# Altium integrated library Molex FFC - FPC Connectors (SMT).IntLib: 638 symbols (part 5 of 20)
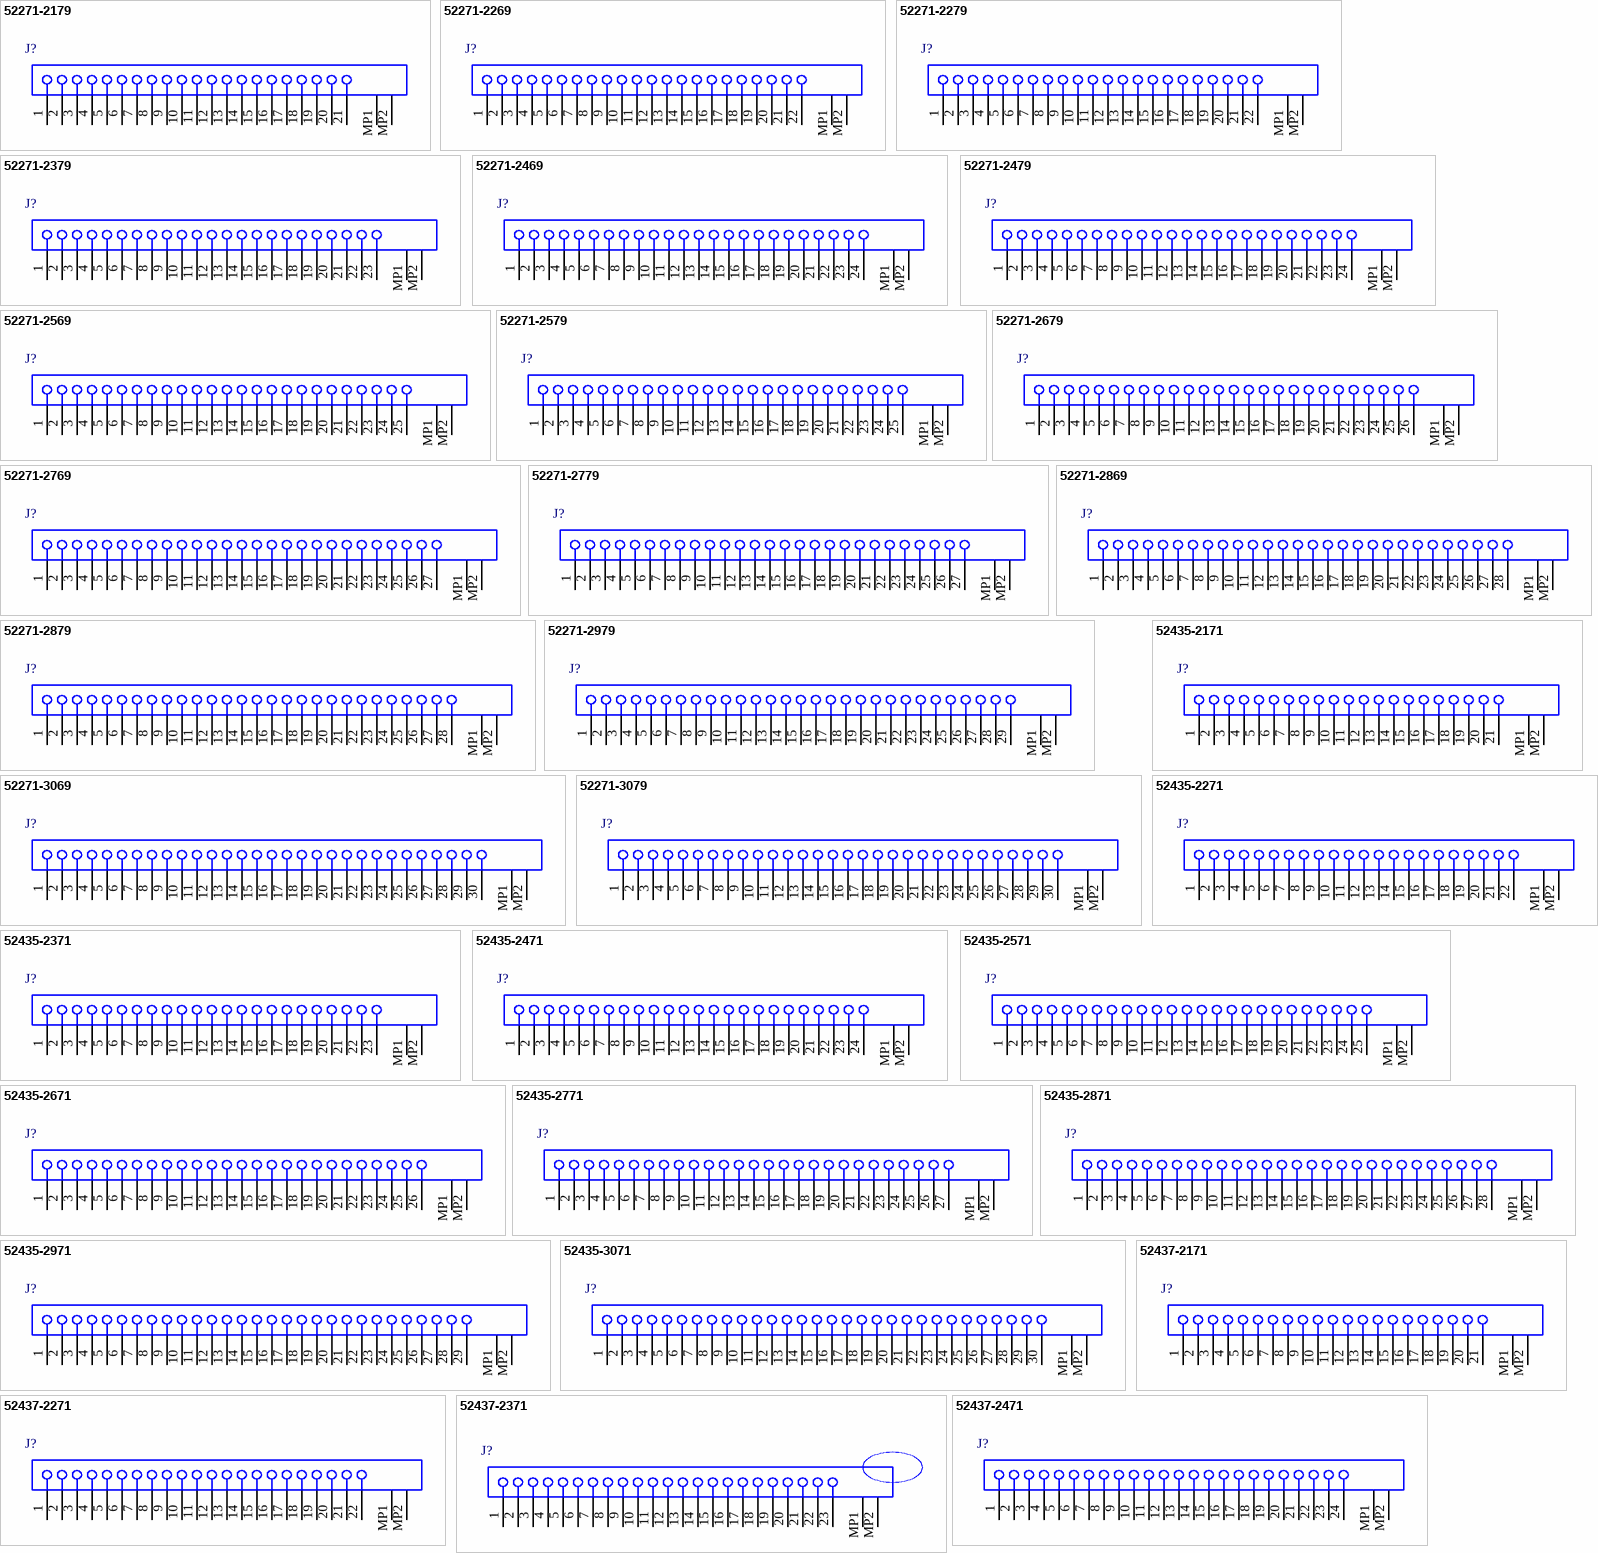
[diagram p25: symbols 52271-2179 to 52437-2471]

## 52435-2571
designator J?
0.5 mm Pitch Easy-On(TM) Type FPC Connector, 2.0 mm Mated Height, Right Angle, ZIF, SMT, Top Contact, 25 Circuits, -40 to 85 degC, ELV and RoHS Compliant, Tape and Reel; Manufacturer: Molex; PartNumber: 52435-2571; Circuits (Loaded): 25; Current (Max per Contact): 0.5A; Durability (mating cycles max): 20; Entry Angle: 90degrees Angle; Mated Height: 2.00mm; Material - Metal: Phosphor Bronze; Material - Plating Mating: Gold; PCB Locator: No; PCB Retention: Yes; Pitch - Mating Interface: 0.50mm; Voltage (Max): 50V AC (RMS)/DC; PackageVersion: Rev. D, 07/2010; PackageReference: 52435-2571; PackageDescription: 25-Lead FPC Connector, Pitch 0.5 mm; Contact Position: Top; Material - Plating Termination: Gold; Number of Rows: 1; Orientation: Right Angle; Packing: Tape and Reel; Polarized to PCB: Yes; RoHS: TRUE; Stackable: No; Mounting Technology: Surface Mount; ComponentLink1Description: Manufacturer URL; ComponentLink1URL: http://www.molex.com/molex/index.jsp; ComponentLink2Description: Datasheet; ComponentLink2URL: http://www.molex.com/webdocs/datasheets/pdf/en-us/0524352571_FFC_FPC_CONNECTORS.pdf; ComponentLink3Description: Package Specification; ComponentLink3URL: http://www.molex.com/pdm_docs/sd/524352571_sd.pdf
footprint MOLX-52435-2571 (FPC Connector, 25-Leads, Right Angle, Pitch 0.5 mm, Mated Height 2.0 mm, SMT)
pins: 1, 2, 3, 4, 5, 6, 7, 8, 9, 10, 11, 12, 13, 14, 15, 16, 17, 18, 19, 20, 21, 22, 23, 24, 25, MP1, MP2

## 52435-2671
designator J?
0.5 mm Pitch Easy-On(TM) Type FPC Connector, 2.0 mm Mated Height, Right Angle, ZIF, SMT, Top Contact, 26 Circuits, -40 to 85 degC, ELV and RoHS Compliant, Tape and Reel; Manufacturer: Molex; PartNumber: 52435-2671; Circuits (Loaded): 26; Current (Max per Contact): 0.5A; Durability (mating cycles max): 20; Entry Angle: 90degrees Angle; Mated Height: 2.00mm; Material - Metal: Phosphor Bronze; Material - Plating Mating: Gold; PCB Locator: No; PCB Retention: Yes; Pitch - Mating Interface: 0.50mm; Voltage (Max): 50V AC (RMS)/DC; PackageVersion: Rev. D, 07/2010; PackageReference: 52435-2671; PackageDescription: 26-Lead FPC Connector, Pitch 0.5 mm; Contact Position: Top; Material - Plating Termination: Gold; Number of Rows: 1; Orientation: Right Angle; Packing: Tape and Reel; Polarized to PCB: Yes; RoHS: TRUE; Stackable: No; Mounting Technology: Surface Mount; ComponentLink1Description: Manufacturer URL; ComponentLink1URL: http://www.molex.com/molex/index.jsp; ComponentLink2Description: Datasheet; ComponentLink2URL: http://www.molex.com/webdocs/datasheets/pdf/en-us/0524352671_FFC_FPC_CONNECTORS.pdf; ComponentLink3Description: Package Specification; ComponentLink3URL: http://www.molex.com/pdm_docs/sd/524352671_sd.pdf
footprint MOLX-52435-2671 (FPC Connector, 26-Leads, Right Angle, Pitch 0.5 mm, Mated Height 2.0 mm, SMT)
pins: 1, 2, 3, 4, 5, 6, 7, 8, 9, 10, 11, 12, 13, 14, 15, 16, 17, 18, 19, 20, 21, 22, 23, 24, 25, 26, MP1, MP2

## 52435-2771
designator J?
0.5 mm Pitch Easy-On(TM) Type FPC Connector, 2.0 mm Mated Height, Right Angle, ZIF, SMT, Top Contact, 27 Circuits, -40 to 85 degC, ELV and RoHS Compliant, Tape and Reel; Manufacturer: Molex; PartNumber: 52435-2771; Circuits (Loaded): 27; Current (Max per Contact): 0.5A; Durability (mating cycles max): 20; Entry Angle: 90degrees Angle; Mated Height: 2.00mm; Material - Metal: Phosphor Bronze; Material - Plating Mating: Gold; PCB Locator: No; PCB Retention: Yes; Pitch - Mating Interface: 0.50mm; Voltage (Max): 50V AC (RMS)/DC; PackageVersion: Rev. D, 07/2010; PackageReference: 52435-2771; PackageDescription: 27-Lead FPC Connector, Pitch 0.5 mm; Contact Position: Top; Material - Plating Termination: Gold; Number of Rows: 1; Orientation: Right Angle; Packing: Tape and Reel; Polarized to PCB: Yes; RoHS: TRUE; Stackable: No; Mounting Technology: Surface Mount; ComponentLink1Description: Manufacturer URL; ComponentLink1URL: http://www.molex.com/molex/index.jsp; ComponentLink2Description: Datasheet; ComponentLink2URL: http://www.molex.com/webdocs/datasheets/pdf/en-us/0524352771_FFC_FPC_CONNECTORS.pdf; ComponentLink3Description: Package Specification; ComponentLink3URL: http://www.molex.com/pdm_docs/sd/524352771_sd.pdf
footprint MOLX-52435-2771 (FPC Connector, 27-Leads, Right Angle, Pitch 0.5 mm, Mated Height 2.0 mm, SMT)
pins: 1, 2, 3, 4, 5, 6, 7, 8, 9, 10, 11, 12, 13, 14, 15, 16, 17, 18, 19, 20, 21, 22, 23, 24, 25, 26, 27, MP1, MP2

## 52435-2871
designator J?
0.5 mm Pitch Easy-On(TM) Type FPC Connector, 2.0 mm Mated Height, Right Angle, ZIF, SMT, Top Contact, 28 Circuits, -40 to 85 degC, ELV and RoHS Compliant, Tape and Reel; Manufacturer: Molex; PartNumber: 52435-2871; Circuits (Loaded): 28; Current (Max per Contact): 0.5A; Durability (mating cycles max): 20; Entry Angle: 90degrees Angle; Mated Height: 2.00mm; Material - Metal: Phosphor Bronze; Material - Plating Mating: Gold; PCB Locator: No; PCB Retention: Yes; Pitch - Mating Interface: 0.50mm; Voltage (Max): 50V AC (RMS)/DC; PackageVersion: Rev. D, 07/2010; PackageReference: 52435-2871; PackageDescription: 28-Lead FPC Connector, Pitch 0.5 mm; Contact Position: Top; Material - Plating Termination: Gold; Number of Rows: 1; Orientation: Right Angle; Packing: Tape and Reel; Polarized to PCB: Yes; RoHS: TRUE; Stackable: No; Mounting Technology: Surface Mount; ComponentLink1Description: Manufacturer URL; ComponentLink1URL: http://www.molex.com/molex/index.jsp; ComponentLink2Description: Datasheet; ComponentLink2URL: http://www.molex.com/webdocs/datasheets/pdf/en-us/0524352871_FFC_FPC_CONNECTORS.pdf; ComponentLink3Description: Package Specification; ComponentLink3URL: http://www.molex.com/pdm_docs/sd/524352871_sd.pdf
footprint MOLX-52435-2871 (FPC Connector, 28-Leads, Right Angle, Pitch 0.5 mm, Mated Height 2.0 mm, SMT)
pins: 1, 2, 3, 4, 5, 6, 7, 8, 9, 10, 11, 12, 13, 14, 15, 16, 17, 18, 19, 20, 21, 22, 23, 24, 25, 26, 27, 28, MP1, MP2

## 52435-2971
designator J?
0.5 mm Pitch Easy-On(TM) Type FPC Connector, 2.0 mm Mated Height, Right Angle, ZIF, SMT, Top Contact, 29 Circuits, -40 to 85 degC, ELV and RoHS Compliant, Tape and Reel; Manufacturer: Molex; PartNumber: 52435-2971; Circuits (Loaded): 29; Current (Max per Contact): 0.5A; Durability (mating cycles max): 20; Entry Angle: 90degrees Angle; Mated Height: 2.00mm; Material - Metal: Phosphor Bronze; Material - Plating Mating: Gold; PCB Locator: No; PCB Retention: Yes; Pitch - Mating Interface: 0.50mm; Voltage (Max): 50V AC (RMS)/DC; PackageVersion: Rev. D, 07/2010; PackageReference: 52435-2971; PackageDescription: 29-Lead FPC Connector, Pitch 0.5 mm; Contact Position: Top; Material - Plating Termination: Gold; Number of Rows: 1; Orientation: Right Angle; Packing: Tape and Reel; Polarized to PCB: Yes; RoHS: TRUE; Stackable: No; Mounting Technology: Surface Mount; ComponentLink1Description: Manufacturer URL; ComponentLink1URL: http://www.molex.com/molex/index.jsp; ComponentLink2Description: Datasheet; ComponentLink2URL: http://www.molex.com/webdocs/datasheets/pdf/en-us/0524352971_FFC_FPC_CONNECTORS.pdf; ComponentLink3Description: Package Specification; ComponentLink3URL: http://www.molex.com/pdm_docs/sd/524352971_sd.pdf
footprint MOLX-52435-2971 (FPC Connector, 29-Leads, Right Angle, Pitch 0.5 mm, Mated Height 2.0 mm, SMT)
pins: 1, 2, 3, 4, 5, 6, 7, 8, 9, 10, 11, 12, 13, 14, 15, 16, 17, 18, 19, 20, 21, 22, 23, 24, 25, 26, 27, 28, 29, MP1, MP2

## 52435-3071
designator J?
0.5 mm Pitch Easy-On(TM) Type FPC Connector, 2.0 mm Mated Height, Right Angle, ZIF, SMT, Top Contact, 30 Circuits, -40 to 85 degC, ELV and RoHS Compliant, Tape and Reel; Manufacturer: Molex; PartNumber: 52435-3071; Circuits (Loaded): 30; Current (Max per Contact): 0.5A; Durability (mating cycles max): 20; Entry Angle: 90degrees Angle; Mated Height: 2.00mm; Material - Metal: Phosphor Bronze; Material - Plating Mating: Gold; PCB Locator: No; PCB Retention: Yes; Pitch - Mating Interface: 0.50mm; Voltage (Max): 50V AC (RMS)/DC; PackageVersion: Rev. D, 07/2010; PackageReference: 52435-3071; PackageDescription: 30-Lead FPC Connector, Pitch 0.5 mm; Contact Position: Top; Material - Plating Termination: Gold; Number of Rows: 1; Orientation: Right Angle; Packing: Tape and Reel; Polarized to PCB: Yes; RoHS: TRUE; Stackable: No; Mounting Technology: Surface Mount; ComponentLink1Description: Manufacturer URL; ComponentLink1URL: http://www.molex.com/molex/index.jsp; ComponentLink2Description: Datasheet; ComponentLink2URL: http://www.molex.com/webdocs/datasheets/pdf/en-us/0524353071_FFC_FPC_CONNECTORS.pdf; ComponentLink3Description: Package Specification; ComponentLink3URL: http://www.molex.com/pdm_docs/sd/524353071_sd.pdf
footprint MOLX-52435-3071 (FPC Connector, 30-Leads, Right Angle, Pitch 0.5 mm, Mated Height 2.0 mm, SMT)
pins: 1, 2, 3, 4, 5, 6, 7, 8, 9, 10, 11, 12, 13, 14, 15, 16, 17, 18, 19, 20, 21, 22, 23, 24, 25, 26, 27, 28, 29, 30, MP1, MP2

## 52437-2171
designator J?
0.5 mm Pitch Easy-On(TM) Type FPC Connector, Right Angle, ZIF, SMT, Bottom Contact, 21 Circuits, -40 to 85 degC, ELV and RoHS Compliant, Tape and Reel; Manufacturer: Molex; PartNumber: 52437-2171; Circuits (Loaded): 21; Current (Max per Contact): 0.5A; Durability (mating cycles max): 20; Entry Angle: 90degrees Angle; Material - Metal: Phosphor Bronze; Material - Plating Mating: Gold; PCB Locator: No; PCB Retention: None; Pitch - Mating Interface: 0.50mm; Polarized to PCB: Yes; Voltage (Max): 50V; PackageVersion: Rev. E, 07/2013; PackageReference: 52437-2171; PackageDescription: 21-Lead FPC Connector, Pitch 0.5 mm; Contact Position: Bottom; Material - Plating Termination: Gold; Number of Rows: 1; Orientation: Right Angle; Packing: Tape and Reel; RoHS: TRUE; Stackable: No; Mounting Technology: Surface Mount; ComponentLink1Description: Manufacturer URL; ComponentLink1URL: http://www.molex.com/molex/index.jsp; ComponentLink2Description: Datasheet; ComponentLink2URL: http://www.molex.com/webdocs/datasheets/pdf/en-us/0524372171_FFC_FPC_CONNECTORS.pdf; ComponentLink3Description: Package Specification; ComponentLink3URL: http://www.molex.com/pdm_docs/sd/524372171_sd.pdf
footprint MOLX-52437-2171 (FPC Connector, 21-Leads, Right Angle, Pitch 0.5 mm, SMT)
pins: 1, 2, 3, 4, 5, 6, 7, 8, 9, 10, 11, 12, 13, 14, 15, 16, 17, 18, 19, 20, 21, MP1, MP2

## 52437-2271
designator J?
0.5 mm Pitch Easy-On(TM) Type FPC Connector, Right Angle, ZIF, SMT, Bottom Contact, 22 Circuits, -40 to 85 degC, ELV and RoHS Compliant, Tape and Reel; Manufacturer: Molex; PartNumber: 52437-2271; Circuits (Loaded): 22; Current (Max per Contact): 0.5A; Durability (mating cycles max): 20; Entry Angle: 90degrees Angle; Material - Metal: Phosphor Bronze; Material - Plating Mating: Gold; PCB Locator: No; PCB Retention: None; Pitch - Mating Interface: 0.50mm; Polarized to PCB: Yes; Voltage (Max): 50V; PackageVersion: Rev. E, 07/2013; PackageReference: 52437-2271; PackageDescription: 22-Lead FPC Connector, Pitch 0.5 mm; Contact Position: Bottom; Material - Plating Termination: Gold; Number of Rows: 1; Orientation: Right Angle; Packing: Tape and Reel; RoHS: TRUE; Stackable: No; Mounting Technology: Surface Mount; ComponentLink1Description: Manufacturer URL; ComponentLink1URL: http://www.molex.com/molex/index.jsp; ComponentLink2Description: Datasheet; ComponentLink2URL: http://www.molex.com/webdocs/datasheets/pdf/en-us/0524372271_FFC_FPC_CONNECTORS.pdf; ComponentLink3Description: Package Specification; ComponentLink3URL: http://www.molex.com/pdm_docs/sd/524372271_sd.pdf
footprint MOLX-52437-2271 (FPC Connector, 22-Leads, Right Angle, Pitch 0.5 mm, SMT)
pins: 1, 2, 3, 4, 5, 6, 7, 8, 9, 10, 11, 12, 13, 14, 15, 16, 17, 18, 19, 20, 21, 22, MP1, MP2

## 52437-2371
designator J?
0.5 mm Pitch Easy-On(TM) Type FPC Connector, Right Angle, ZIF, SMT, Bottom Contact, 23 Circuits, -40 to 85 degC, ELV and RoHS Compliant, Tape and Reel; Manufacturer: Molex; PartNumber: 52437-2371; Circuits (Loaded): 23; Current (Max per Contact): 0.5A; Durability (mating cycles max): 20; Entry Angle: 90degrees Angle; Material - Metal: Phosphor Bronze; Material - Plating Mating: Gold; PCB Locator: No; PCB Retention: None; Pitch - Mating Interface: 0.50mm; Polarized to PCB: Yes; Voltage (Max): 50V; PackageVersion: Rev. E, 07/2013; PackageReference: 52437-2371; PackageDescription: 23-Lead FPC Connector, Pitch 0.5 mm; Contact Position: Bottom; Material - Plating Termination: Gold; Number of Rows: 1; Orientation: Right Angle; Packing: Tape and Reel; RoHS: TRUE; Stackable: No; Mounting Technology: Surface Mount; ComponentLink1Description: Manufacturer URL; ComponentLink1URL: http://www.molex.com/molex/index.jsp; ComponentLink2Description: Datasheet; ComponentLink2URL: http://www.molex.com/webdocs/datasheets/pdf/en-us/0524372371_FFC_FPC_CONNECTORS.pdf; ComponentLink3Description: Package Specification; ComponentLink3URL: http://www.molex.com/pdm_docs/sd/524372371_sd.pdf
footprint MOLX-52437-2371 (FPC Connector, 23-Leads, Right Angle, Pitch 0.5 mm, SMT)
pins: 1, 2, 3, 4, 5, 6, 7, 8, 9, 10, 11, 12, 13, 14, 15, 16, 17, 18, 19, 20, 21, 22, 23, MP1, MP2

## 52437-2471
designator J?
0.5 mm Pitch Easy-On(TM) Type FPC Connector, Right Angle, ZIF, SMT, Bottom Contact, 24 Circuits, -40 to 85 degC, ELV and RoHS Compliant, Tape and Reel; Manufacturer: Molex; PartNumber: 52437-2471; Circuits (Loaded): 24; Current (Max per Contact): 0.5A; Durability (mating cycles max): 20; Entry Angle: 90degrees Angle; Material - Metal: Phosphor Bronze; Material - Plating Mating: Gold; PCB Locator: No; PCB Retention: None; Pitch - Mating Interface: 0.50mm; Polarized to PCB: Yes; Voltage (Max): 50V; PackageVersion: Rev. E, 07/2013; PackageReference: 52437-2471; PackageDescription: 24-Lead FPC Connector, Pitch 0.5 mm; Contact Position: Bottom; Material - Plating Termination: Gold; Number of Rows: 1; Orientation: Right Angle; Packing: Tape and Reel; RoHS: TRUE; Stackable: No; Mounting Technology: Surface Mount; ComponentLink1Description: Manufacturer URL; ComponentLink1URL: http://www.molex.com/molex/index.jsp; ComponentLink2Description: Datasheet; ComponentLink2URL: http://www.molex.com/webdocs/datasheets/pdf/en-us/0524372471_FFC_FPC_CONNECTORS.pdf; ComponentLink3Description: Package Specification; ComponentLink3URL: http://www.molex.com/pdm_docs/sd/524372471_sd.pdf
footprint MOLX-52437-2471 (FPC Connector, 24-Leads, Right Angle, Pitch 0.5 mm, SMT)
pins: 1, 2, 3, 4, 5, 6, 7, 8, 9, 10, 11, 12, 13, 14, 15, 16, 17, 18, 19, 20, 21, 22, 23, 24, MP1, MP2

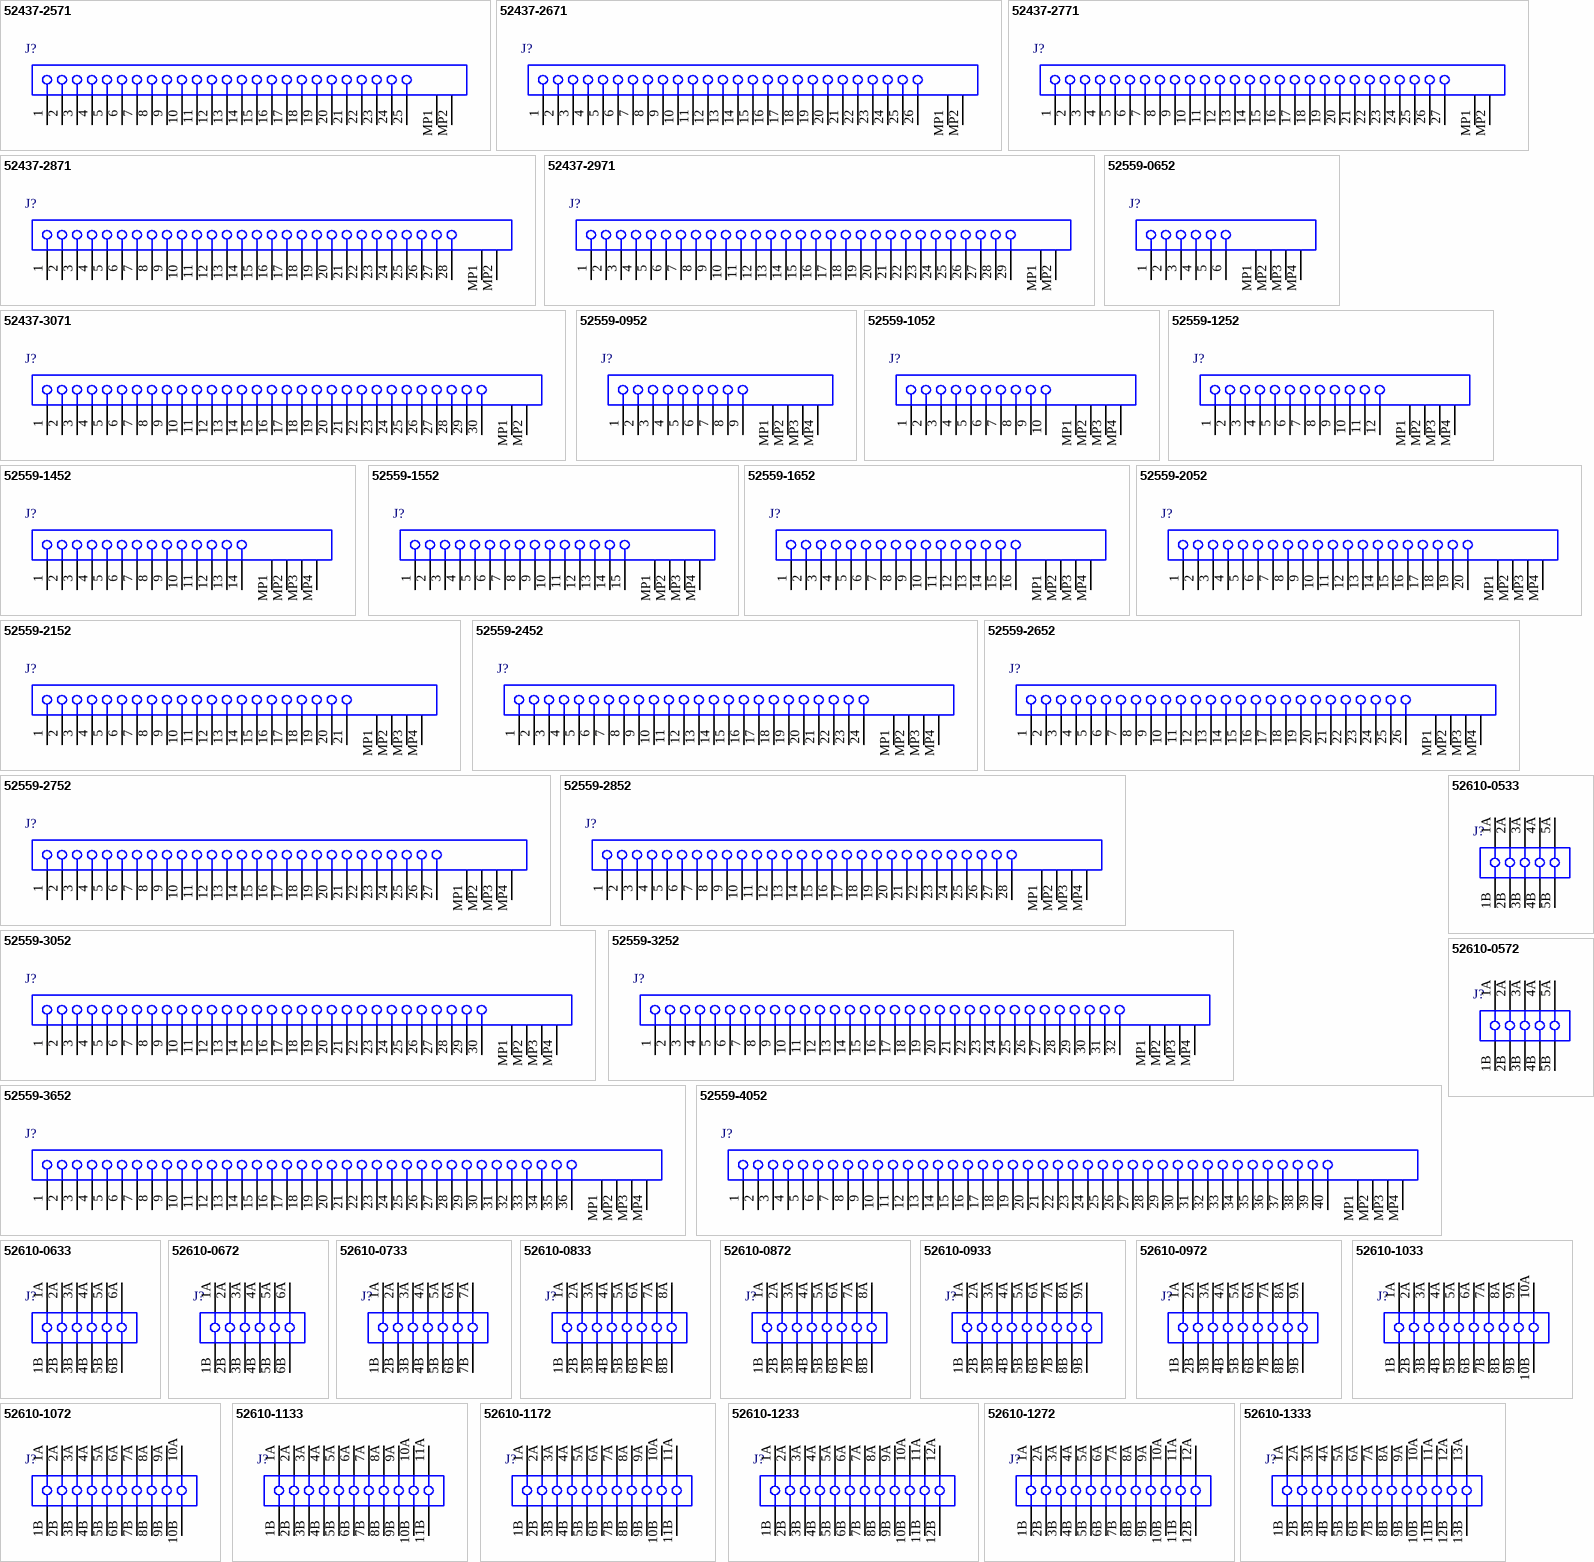
[diagram p4: symbols 52437-2571 to 52610-1333]

## 52437-2571
designator J?
0.5 mm Pitch Easy-On(TM) Type FPC Connector, Right Angle, ZIF, SMT, Bottom Contact, 25 Circuits, -40 to 85 degC, ELV and RoHS Compliant, Tape and Reel; Manufacturer: Molex; PartNumber: 52437-2571; Circuits (Loaded): 25; Current (Max per Contact): 0.5A; Durability (mating cycles max): 20; Entry Angle: 90degrees Angle; Material - Metal: Phosphor Bronze; Material - Plating Mating: Gold; PCB Locator: No; PCB Retention: None; Pitch - Mating Interface: 0.50mm; Polarized to PCB: Yes; Voltage (Max): 50V; PackageVersion: Rev. E, 07/2013; PackageReference: 52437-2571; PackageDescription: 25-Lead FPC Connector, Pitch 0.5 mm; Contact Position: Bottom; Material - Plating Termination: Gold; Number of Rows: 1; Orientation: Right Angle; Packing: Tape and Reel; RoHS: TRUE; Stackable: No; Mounting Technology: Surface Mount; ComponentLink1Description: Manufacturer URL; ComponentLink1URL: http://www.molex.com/molex/index.jsp; ComponentLink2Description: Datasheet; ComponentLink2URL: http://www.molex.com/webdocs/datasheets/pdf/en-us/0524372571_FFC_FPC_CONNECTORS.pdf; ComponentLink3Description: Package Specification; ComponentLink3URL: http://www.molex.com/pdm_docs/sd/524372571_sd.pdf
footprint MOLX-52437-2571 (FPC Connector, 25-Leads, Right Angle, Pitch 0.5 mm, SMT)
pins: 1, 2, 3, 4, 5, 6, 7, 8, 9, 10, 11, 12, 13, 14, 15, 16, 17, 18, 19, 20, 21, 22, 23, 24, 25, MP1, MP2

## 52437-2671
designator J?
0.5 mm Pitch Easy-On(TM) Type FPC Connector, Right Angle, ZIF, SMT, Bottom Contact, 26 Circuits, -40 to 85 degC, ELV and RoHS Compliant, Tape and Reel; Manufacturer: Molex; PartNumber: 52437-2671; Circuits (Loaded): 26; Current (Max per Contact): 0.5A; Durability (mating cycles max): 20; Entry Angle: 90degrees Angle; Material - Metal: Phosphor Bronze; Material - Plating Mating: Gold; PCB Locator: No; PCB Retention: None; Pitch - Mating Interface: 0.50mm; Polarized to PCB: Yes; Voltage (Max): 50V; PackageVersion: Rev. E, 07/2013; PackageReference: 52437-2671; PackageDescription: 26-Lead FPC Connector, Pitch 0.5 mm; Contact Position: Bottom; Material - Plating Termination: Gold; Number of Rows: 1; Orientation: Right Angle; Packing: Tape and Reel; RoHS: TRUE; Stackable: No; Mounting Technology: Surface Mount; ComponentLink1Description: Manufacturer URL; ComponentLink1URL: http://www.molex.com/molex/index.jsp; ComponentLink2Description: Datasheet; ComponentLink2URL: http://www.molex.com/webdocs/datasheets/pdf/en-us/0524372671_FFC_FPC_CONNECTORS.pdf; ComponentLink3Description: Package Specification; ComponentLink3URL: http://www.molex.com/pdm_docs/sd/524372671_sd.pdf
footprint MOLX-52437-2671 (FPC Connector, 26-Leads, Right Angle, Pitch 0.5 mm, SMT)
pins: 1, 2, 3, 4, 5, 6, 7, 8, 9, 10, 11, 12, 13, 14, 15, 16, 17, 18, 19, 20, 21, 22, 23, 24, 25, 26, MP1, MP2

## 52437-2771
designator J?
0.5 mm Pitch Easy-On(TM) Type FPC Connector, Right Angle, ZIF, SMT, Bottom Contact, 27 Circuits, -40 to 85 degC, ELV and RoHS Compliant, Tape and Reel; Manufacturer: Molex; PartNumber: 52437-2771; Circuits (Loaded): 27; Current (Max per Contact): 0.5A; Durability (mating cycles max): 20; Entry Angle: 90degrees Angle; Material - Metal: Phosphor Bronze; Material - Plating Mating: Gold; PCB Locator: No; PCB Retention: None; Pitch - Mating Interface: 0.50mm; Polarized to PCB: Yes; Voltage (Max): 50V; PackageVersion: Rev. E, 07/2013; PackageReference: 52437-2771; PackageDescription: 27-Lead FPC Connector, Pitch 0.5 mm; Contact Position: Bottom; Material - Plating Termination: Gold; Number of Rows: 1; Orientation: Right Angle; Packing: Tape and Reel; RoHS: TRUE; Stackable: No; Mounting Technology: Surface Mount; ComponentLink1Description: Manufacturer URL; ComponentLink1URL: http://www.molex.com/molex/index.jsp; ComponentLink2Description: Datasheet; ComponentLink2URL: http://www.molex.com/webdocs/datasheets/pdf/en-us/0524372771_FFC_FPC_CONNECTORS.pdf; ComponentLink3Description: Package Specification; ComponentLink3URL: http://www.molex.com/pdm_docs/sd/524372771_sd.pdf
footprint MOLX-52437-2771 (FPC Connector, 27-Leads, Right Angle, Pitch 0.5 mm, SMT)
pins: 1, 2, 3, 4, 5, 6, 7, 8, 9, 10, 11, 12, 13, 14, 15, 16, 17, 18, 19, 20, 21, 22, 23, 24, 25, 26, 27, MP1, MP2

## 52437-2871
designator J?
0.5 mm Pitch Easy-On(TM) Type FPC Connector, Right Angle, ZIF, SMT, Bottom Contact, 28 Circuits, -40 to 85 degC, ELV and RoHS Compliant, Tape and Reel; Manufacturer: Molex; PartNumber: 52437-2871; Circuits (Loaded): 28; Current (Max per Contact): 0.5A; Durability (mating cycles max): 20; Entry Angle: 90degrees Angle; Material - Metal: Phosphor Bronze; Material - Plating Mating: Gold; PCB Locator: No; PCB Retention: None; Pitch - Mating Interface: 0.50mm; Polarized to PCB: Yes; Voltage (Max): 50V; PackageVersion: Rev. E, 07/2013; PackageReference: 52437-2871; PackageDescription: 28-Lead FPC Connector, Pitch 0.5 mm; Contact Position: Bottom; Material - Plating Termination: Gold; Number of Rows: 1; Orientation: Right Angle; Packing: Tape and Reel; RoHS: TRUE; Stackable: No; Mounting Technology: Surface Mount; ComponentLink1Description: Manufacturer URL; ComponentLink1URL: http://www.molex.com/molex/index.jsp; ComponentLink2Description: Datasheet; ComponentLink2URL: http://www.molex.com/webdocs/datasheets/pdf/en-us/0524372871_FFC_FPC_CONNECTORS.pdf; ComponentLink3Description: Package Specification; ComponentLink3URL: http://www.molex.com/pdm_docs/sd/524372871_sd.pdf
footprint MOLX-52437-2871 (FPC Connector, 28-Leads, Right Angle, Pitch 0.5 mm, SMT)
pins: 1, 2, 3, 4, 5, 6, 7, 8, 9, 10, 11, 12, 13, 14, 15, 16, 17, 18, 19, 20, 21, 22, 23, 24, 25, 26, 27, 28, MP1, MP2

## 52437-2971
designator J?
0.5 mm Pitch Easy-On(TM) Type FPC Connector, Right Angle, ZIF, SMT, Bottom Contact, 29 Circuits, -40 to 85 degC, ELV and RoHS Compliant, Tape and Reel; Manufacturer: Molex; PartNumber: 52437-2971; Circuits (Loaded): 29; Current (Max per Contact): 0.5A; Durability (mating cycles max): 20; Entry Angle: 90degrees Angle; Material - Metal: Phosphor Bronze; Material - Plating Mating: Gold; PCB Locator: No; PCB Retention: None; Pitch - Mating Interface: 0.50mm; Polarized to PCB: Yes; Voltage (Max): 50V; PackageVersion: Rev. E, 07/2013; PackageReference: 52437-2971; PackageDescription: 29-Lead FPC Connector, Pitch 0.5 mm; Contact Position: Bottom; Material - Plating Termination: Gold; Number of Rows: 1; Orientation: Right Angle; Packing: Tape and Reel; RoHS: TRUE; Stackable: No; Mounting Technology: Surface Mount; ComponentLink1Description: Manufacturer URL; ComponentLink1URL: http://www.molex.com/molex/index.jsp; ComponentLink2Description: Datasheet; ComponentLink2URL: http://www.molex.com/webdocs/datasheets/pdf/en-us/0524372971_FFC_FPC_CONNECTORS.pdf; ComponentLink3Description: Package Specification; ComponentLink3URL: http://www.molex.com/pdm_docs/sd/524372971_sd.pdf
footprint MOLX-52437-2971 (FPC Connector, 29-Leads, Right Angle, Pitch 0.5 mm, SMT)
pins: 1, 2, 3, 4, 5, 6, 7, 8, 9, 10, 11, 12, 13, 14, 15, 16, 17, 18, 19, 20, 21, 22, 23, 24, 25, 26, 27, 28, 29, MP1, MP2

## 52437-3071
designator J?
0.5 mm Pitch Easy-On(TM) Type FPC Connector, Right Angle, ZIF, SMT, Bottom Contact, 30 Circuits, -40 to 85 degC, ELV and RoHS Compliant, Tape and Reel; Manufacturer: Molex; PartNumber: 52437-3071; Circuits (Loaded): 30; Current (Max per Contact): 0.5A; Durability (mating cycles max): 20; Entry Angle: 90degrees Angle; Material - Metal: Phosphor Bronze; Material - Plating Mating: Gold; PCB Locator: No; PCB Retention: None; Pitch - Mating Interface: 0.50mm; Polarized to PCB: Yes; Voltage (Max): 50V; PackageVersion: Rev. E, 07/2013; PackageReference: 52437-3071; PackageDescription: 30-Lead FPC Connector, Pitch 0.5 mm; Contact Position: Bottom; Material - Plating Termination: Gold; Number of Rows: 1; Orientation: Right Angle; Packing: Tape and Reel; RoHS: TRUE; Stackable: No; Mounting Technology: Surface Mount; ComponentLink1Description: Manufacturer URL; ComponentLink1URL: http://www.molex.com/molex/index.jsp; ComponentLink2Description: Datasheet; ComponentLink2URL: http://www.molex.com/webdocs/datasheets/pdf/en-us/0524373071_FFC_FPC_CONNECTORS.pdf; ComponentLink3Description: Package Specification; ComponentLink3URL: http://www.molex.com/pdm_docs/sd/524373071_sd.pdf
footprint MOLX-52437-3071 (FPC Connector, 30-Leads, Right Angle, Pitch 0.5 mm, SMT)
pins: 1, 2, 3, 4, 5, 6, 7, 8, 9, 10, 11, 12, 13, 14, 15, 16, 17, 18, 19, 20, 21, 22, 23, 24, 25, 26, 27, 28, 29, 30, MP1, MP2

## 52559-0652
designator J?
0.5 mm Pitch Easy-On(TM) Type FPC Connector, 3.9 mm Mated Height, Vertical, ZIF, SMT, 6 Circuits, -40 to 85 degC, ELV and RoHS Compliant, Tape and Reel; Manufacturer: Molex; PartNumber: 52559-0652; Circuits (Loaded): 6; Current (Max per Contact): 0.5A; Durability (mating cycles max): 20; Mated Height: 3.90mm; Material - Metal: Phosphor Bronze; Material - Plating Mating: Gold; Material - Plating Termination: Tin; PCB Locator: No; PCB Retention: Yes; Pitch - Mating Interface: 0.50mm; Voltage (Max): 50V AC (RMS)/DC; PackageVersion: Rev. B, 12/2011; PackageReference: 52559-0652; PackageDescription: 6-Lead FPC Connector, Pitch 0.5 mm; Contact Position: N/A; Entry Angle: Vertical; Number of Rows: 1; Orientation: Vertical; Packing: Tape and Reel; Polarized to PCB: No; RoHS: TRUE; Stackable: No; Mounting Technology: Surface Mount; ComponentLink1Description: Manufacturer URL; ComponentLink1URL: http://www.molex.com/molex/index.jsp; ComponentLink2Description: Datasheet; ComponentLink2URL: http://www.molex.com/webdocs/datasheets/pdf/en-us/0525590652_FFC_FPC_CONNECTORS.pdf; ComponentLink3Description: Package Specification; ComponentLink3URL: http://www.molex.com/pdm_docs/sd/525590652_sd.pdf
footprint MOLX-52559-0652 (FPC Connector, 6-Leads, Vertical, Pitch 0.5 mm, Mated Height 3.9 mm, SMT)
pins: 1, 2, 3, 4, 5, 6, MP1, MP2, MP3, MP4

## 52559-0952
designator J?
0.5 mm Pitch Easy-On(TM) Type FPC Connector, 3.9 mm Mated Height, Vertical, ZIF, SMT, 9 Circuits, -40 to 85 degC, ELV and RoHS Compliant, Tape and Reel; Manufacturer: Molex; PartNumber: 52559-0952; Circuits (Loaded): 9; Current (Max per Contact): 0.5A; Durability (mating cycles max): 20; Mated Height: 3.90mm; Material - Metal: Phosphor Bronze; Material - Plating Mating: Gold; Material - Plating Termination: Tin; PCB Locator: No; PCB Retention: Yes; Pitch - Mating Interface: 0.50mm; Voltage (Max): 50V AC (RMS)/DC; PackageVersion: Rev. B, 12/2011; PackageReference: 52559-0952; PackageDescription: 9-Lead FPC Connector, Pitch 0.5 mm; Contact Position: N/A; Entry Angle: Vertical; Number of Rows: 1; Orientation: Vertical; Packing: Tape and Reel; Polarized to PCB: No; RoHS: TRUE; Stackable: No; Mounting Technology: Surface Mount; ComponentLink1Description: Manufacturer URL; ComponentLink1URL: http://www.molex.com/molex/index.jsp; ComponentLink2Description: Datasheet; ComponentLink2URL: http://www.molex.com/webdocs/datasheets/pdf/en-us/0525590952_FFC_FPC_CONNECTORS.pdf; ComponentLink3Description: Package Specification; ComponentLink3URL: http://www.molex.com/pdm_docs/sd/525590952_sd.pdf
footprint MOLX-52559-0952 (FPC Connector, 9-Leads, Vertical, Pitch 0.5 mm, Mated Height 3.9 mm, SMT)
pins: 1, 2, 3, 4, 5, 6, 7, 8, 9, MP1, MP2, MP3, MP4

## 52559-1052
designator J?
0.5 mm Pitch Easy-On(TM) Type FPC Connector, 3.9 mm Mated Height, Vertical, ZIF, SMT, 10 Circuits, -40 to 85 degC, ELV and RoHS Compliant, Tape and Reel; Manufacturer: Molex; PartNumber: 52559-1052; Circuits (Loaded): 10; Current (Max per Contact): 0.5A; Durability (mating cycles max): 20; Mated Height: 3.90mm; Material - Metal: Phosphor Bronze; Material - Plating Mating: Gold; Material - Plating Termination: Tin; PCB Locator: No; PCB Retention: Yes; Pitch - Mating Interface: 0.50mm; Voltage (Max): 50V AC (RMS)/DC; PackageVersion: Rev. B, 12/2011; PackageReference: 52559-1052; PackageDescription: 10-Lead FPC Connector, Pitch 0.5 mm; Contact Position: N/A; Entry Angle: Vertical; Number of Rows: 1; Orientation: Vertical; Packing: Tape and Reel; Polarized to PCB: No; RoHS: TRUE; Stackable: No; Mounting Technology: Surface Mount; ComponentLink1Description: Manufacturer URL; ComponentLink1URL: http://www.molex.com/molex/index.jsp; ComponentLink2Description: Datasheet; ComponentLink2URL: http://www.molex.com/webdocs/datasheets/pdf/en-us/0525591052_FFC_FPC_CONNECTORS.pdf; ComponentLink3Description: Package Specification; ComponentLink3URL: http://www.molex.com/pdm_docs/sd/525591052_sd.pdf
footprint MOLX-52559-1052 (FPC Connector, 10-Leads, Vertical, Pitch 0.5 mm, Mated Height 3.9 mm, SMT)
pins: 1, 2, 3, 4, 5, 6, 7, 8, 9, 10, MP1, MP2, MP3, MP4

## 52559-1252
designator J?
0.5 mm Pitch Easy-On(TM) Type FPC Connector, 3.9 mm Mated Height, Vertical, ZIF, SMT, 12 Circuits, -40 to 85 degC, ELV and RoHS Compliant, Tape and Reel; Manufacturer: Molex; PartNumber: 52559-1252; Circuits (Loaded): 12; Current (Max per Contact): 0.5A; Durability (mating cycles max): 20; Mated Height: 3.90mm; Material - Metal: Phosphor Bronze; Material - Plating Mating: Gold; Material - Plating Termination: Tin; PCB Locator: No; PCB Retention: Yes; Pitch - Mating Interface: 0.50mm; Voltage (Max): 50V AC (RMS)/DC; PackageVersion: Rev. B, 12/2011; PackageReference: 52559-1252; PackageDescription: 12-Lead FPC Connector, Pitch 0.5 mm; Contact Position: N/A; Entry Angle: Vertical; Number of Rows: 1; Orientation: Vertical; Packing: Tape and Reel; Polarized to PCB: No; RoHS: TRUE; Stackable: No; Mounting Technology: Surface Mount; ComponentLink1Description: Manufacturer URL; ComponentLink1URL: http://www.molex.com/molex/index.jsp; ComponentLink2Description: Datasheet; ComponentLink2URL: http://www.molex.com/webdocs/datasheets/pdf/en-us/0525591252_FFC_FPC_CONNECTORS.pdf; ComponentLink3Description: Package Specification; ComponentLink3URL: http://www.molex.com/pdm_docs/sd/525591252_sd.pdf
footprint MOLX-52559-1252 (FPC Connector, 12-Leads, Vertical, Pitch 0.5 mm, Mated Height 3.9 mm, SMT)
pins: 1, 2, 3, 4, 5, 6, 7, 8, 9, 10, 11, 12, MP1, MP2, MP3, MP4

## 52559-1452
designator J?
0.5 mm Pitch Easy-On(TM) Type FPC Connector, 3.9 mm Mated Height, Vertical, ZIF, SMT, 14 Circuits, -40 to 85 degC, ELV and RoHS Compliant, Tape and Reel; Manufacturer: Molex; PartNumber: 52559-1452; Circuits (Loaded): 14; Current (Max per Contact): 0.5A; Durability (mating cycles max): 20; Mated Height: 3.90mm; Material - Metal: Phosphor Bronze; Material - Plating Mating: Gold; Material - Plating Termination: Tin; PCB Locator: No; PCB Retention: Yes; Pitch - Mating Interface: 0.50mm; Voltage (Max): 50V AC (RMS)/DC; PackageVersion: Rev. B, 12/2011; PackageReference: 52559-1452; PackageDescription: 14-Lead FPC Connector, Pitch 0.5 mm; Contact Position: N/A; Entry Angle: Vertical; Number of Rows: 1; Orientation: Vertical; Packing: Tape and Reel; Polarized to PCB: No; RoHS: TRUE; Stackable: No; Mounting Technology: Surface Mount; ComponentLink1Description: Manufacturer URL; ComponentLink1URL: http://www.molex.com/molex/index.jsp; ComponentLink2Description: Datasheet; ComponentLink2URL: http://www.molex.com/webdocs/datasheets/pdf/en-us/0525591452_FFC_FPC_CONNECTORS.pdf; ComponentLink3Description: Package Specification; ComponentLink3URL: http://www.molex.com/pdm_docs/sd/525591452_sd.pdf
footprint MOLX-52559-1452 (FPC Connector, 14-Leads, Vertical, Pitch 0.5 mm, Mated Height 3.9 mm, SMT)
pins: 1, 2, 3, 4, 5, 6, 7, 8, 9, 10, 11, 12, 13, 14, MP1, MP2, MP3, MP4

## 52559-1552
designator J?
0.5 mm Pitch Easy-On(TM) Type FPC Connector, 3.9 mm Mated Height, Vertical, ZIF, SMT, 15 Circuits, -40 to 85 degC, ELV and RoHS Compliant, Tape and Reel; Manufacturer: Molex; PartNumber: 52559-1552; Circuits (Loaded): 15; Current (Max per Contact): 0.5A; Durability (mating cycles max): 20; Mated Height: 3.90mm; Material - Metal: Phosphor Bronze; Material - Plating Mating: Gold; Material - Plating Termination: Tin; PCB Locator: No; PCB Retention: Yes; Pitch - Mating Interface: 0.50mm; Voltage (Max): 50V AC (RMS)/DC; PackageVersion: Rev. B, 12/2011; PackageReference: 52559-1552; PackageDescription: 15-Lead FPC Connector, Pitch 0.5 mm; Contact Position: N/A; Entry Angle: Vertical; Number of Rows: 1; Orientation: Vertical; Packing: Tape and Reel; Polarized to PCB: No; RoHS: TRUE; Stackable: No; Mounting Technology: Surface Mount; ComponentLink1Description: Manufacturer URL; ComponentLink1URL: http://www.molex.com/molex/index.jsp; ComponentLink2Description: Datasheet; ComponentLink2URL: http://www.molex.com/webdocs/datasheets/pdf/en-us/0525591552_FFC_FPC_CONNECTORS.pdf; ComponentLink3Description: Package Specification; ComponentLink3URL: http://www.molex.com/pdm_docs/sd/525591552_sd.pdf
footprint MOLX-52559-1552 (FPC Connector, 15-Leads, Vertical, Pitch 0.5 mm, Mated Height 3.9 mm, SMT)
pins: 1, 2, 3, 4, 5, 6, 7, 8, 9, 10, 11, 12, 13, 14, 15, MP1, MP2, MP3, MP4

## 52559-1652
designator J?
0.5 mm Pitch Easy-On(TM) Type FPC Connector, 3.9 mm Mated Height, Vertical, ZIF, SMT, 16 Circuits, -40 to 85 degC, ELV and RoHS Compliant, Tape and Reel; Manufacturer: Molex; PartNumber: 52559-1652; Circuits (Loaded): 16; Current (Max per Contact): 0.5A; Durability (mating cycles max): 20; Mated Height: 3.90mm; Material - Metal: Phosphor Bronze; Material - Plating Mating: Gold; Material - Plating Termination: Tin; PCB Locator: No; PCB Retention: Yes; Pitch - Mating Interface: 0.50mm; Voltage (Max): 50V AC (RMS)/DC; PackageVersion: Rev. B, 12/2011; PackageReference: 52559-1652; PackageDescription: 16-Lead FPC Connector, Pitch 0.5 mm; Contact Position: N/A; Entry Angle: Vertical; Number of Rows: 1; Orientation: Vertical; Packing: Tape and Reel; Polarized to PCB: No; RoHS: TRUE; Stackable: No; Mounting Technology: Surface Mount; ComponentLink1Description: Manufacturer URL; ComponentLink1URL: http://www.molex.com/molex/index.jsp; ComponentLink2Description: Datasheet; ComponentLink2URL: http://www.molex.com/webdocs/datasheets/pdf/en-us/0525591652_FFC_FPC_CONNECTORS.pdf; ComponentLink3Description: Package Specification; ComponentLink3URL: http://www.molex.com/pdm_docs/sd/525591652_sd.pdf
footprint MOLX-52559-1652 (FPC Connector, 16-Leads, Vertical, Pitch 0.5 mm, Mated Height 3.9 mm, SMT)
pins: 1, 2, 3, 4, 5, 6, 7, 8, 9, 10, 11, 12, 13, 14, 15, 16, MP1, MP2, MP3, MP4

## 52559-2052
designator J?
0.5 mm Pitch Easy-On(TM) Type FPC Connector, 3.9 mm Mated Height, Vertical, ZIF, SMT, 20 Circuits, -40 to 85 degC, ELV and RoHS Compliant, Tape and Reel; Manufacturer: Molex; PartNumber: 52559-2052; Circuits (Loaded): 20; Current (Max per Contact): 0.5A; Mated Height: 3.90mm; Material - Metal: Phosphor Bronze; Material - Plating Mating: Gold; Material - Plating Termination: Tin; PCB Locator: No; PCB Retention: Yes; Pitch - Mating Interface: 0.50mm; Voltage (Max): 50V AC (RMS)/DC; PackageVersion: Rev. B, 12/2011; PackageReference: 52559-2052; PackageDescription: 20-Lead FPC Connector, Pitch 0.5 mm; Contact Position: N/A; Durability (mating cycles max): 20; Entry Angle: Vertical; Number of Rows: 1; Orientation: Vertical; Packing: Tape and Reel; Polarized to PCB: No; RoHS: TRUE; Stackable: No; Mounting Technology: Surface Mount; ComponentLink1Description: Manufacturer URL; ComponentLink1URL: http://www.molex.com/molex/index.jsp; ComponentLink2Description: Datasheet; ComponentLink2URL: http://www.molex.com/webdocs/datasheets/pdf/en-us/0525592052_FFC_FPC_CONNECTORS.pdf; ComponentLink3Description: Package Specification; ComponentLink3URL: http://www.molex.com/pdm_docs/sd/525592052_sd.pdf
footprint MOLX-52559-2052 (FPC Connector, 20-Leads, Vertical, Pitch 0.5 mm, Mated Height 3.9 mm, SMT)
pins: 1, 2, 3, 4, 5, 6, 7, 8, 9, 10, 11, 12, 13, 14, 15, 16, 17, 18, 19, 20, MP1, MP2, MP3, MP4

## 52559-2152
designator J?
0.5 mm Pitch Easy-On(TM) Type FPC Connector, 3.9 mm Mated Height, Vertical, ZIF, SMT, 21 Circuits, -40 to 85 degC, ELV and RoHS Compliant, Tape and Reel; Manufacturer: Molex; PartNumber: 52559-2152; Circuits (Loaded): 21; Current (Max per Contact): 0.5A; Durability (mating cycles max): 20; Mated Height: 3.90mm; Material - Metal: Phosphor Bronze; Material - Plating Mating: Gold; Material - Plating Termination: Tin; PCB Locator: No; PCB Retention: Yes; Pitch - Mating Interface: 0.50mm; Voltage (Max): 50V AC (RMS)/DC; PackageVersion: Rev. B, 12/2011; PackageReference: 52559-2152; PackageDescription: 21-Lead FPC Connector, Pitch 0.5 mm; Contact Position: N/A; Entry Angle: Vertical; Number of Rows: 1; Orientation: Vertical; Packing: Tape and Reel; Polarized to PCB: No; RoHS: TRUE; Stackable: No; Mounting Technology: Surface Mount; ComponentLink1Description: Manufacturer URL; ComponentLink1URL: http://www.molex.com/molex/index.jsp; ComponentLink2Description: Datasheet; ComponentLink2URL: http://www.molex.com/webdocs/datasheets/pdf/en-us/0525592152_FFC_FPC_CONNECTORS.pdf; ComponentLink3Description: Package Specification; ComponentLink3URL: http://www.molex.com/pdm_docs/sd/525592152_sd.pdf
footprint MOLX-52559-2152 (FPC Connector, 21-Leads, Vertical, Pitch 0.5 mm, Mated Height 3.9 mm, SMT)
pins: 1, 2, 3, 4, 5, 6, 7, 8, 9, 10, 11, 12, 13, 14, 15, 16, 17, 18, 19, 20, 21, MP1, MP2, MP3, MP4

## 52559-2452
designator J?
0.5 mm Pitch Easy-On(TM) Type FPC Connector, 3.9 mm Mated Height, Vertical, ZIF, SMT, 24 Circuits, -40 to 85 degC, ELV and RoHS Compliant, Tape and Reel; Manufacturer: Molex; PartNumber: 52559-2452; Circuits (Loaded): 24; Current (Max per Contact): 0.5A; Durability (mating cycles max): 20; Mated Height: 3.90mm; Material - Metal: Phosphor Bronze; Material - Plating Mating: Gold; Material - Plating Termination: Tin; PCB Locator: No; PCB Retention: Yes; Pitch - Mating Interface: 0.50mm; Voltage (Max): 50V AC (RMS)/DC; PackageVersion: Rev. B, 12/2011; PackageReference: 52559-2452; PackageDescription: 24-Lead FPC Connector, Pitch 0.5 mm; Contact Position: N/A; Entry Angle: Vertical; Number of Rows: 1; Orientation: Vertical; Packing: Tape and Reel; Polarized to PCB: No; RoHS: TRUE; Stackable: No; Mounting Technology: Surface Mount; ComponentLink1Description: Manufacturer URL; ComponentLink1URL: http://www.molex.com/molex/index.jsp; ComponentLink2Description: Datasheet; ComponentLink2URL: http://www.molex.com/webdocs/datasheets/pdf/en-us/0525592452_FFC_FPC_CONNECTORS.pdf; ComponentLink3Description: Package Specification; ComponentLink3URL: http://www.molex.com/pdm_docs/sd/525592452_sd.pdf
footprint MOLX-52559-2452 (FPC Connector, 24-Leads, Vertical, Pitch 0.5 mm, Mated Height 3.9 mm, SMT)
pins: 1, 2, 3, 4, 5, 6, 7, 8, 9, 10, 11, 12, 13, 14, 15, 16, 17, 18, 19, 20, 21, 22, 23, 24, MP1, MP2, MP3, MP4

## 52559-2652
designator J?
0.5 mm Pitch Easy-On(TM) Type FPC Connector, 3.9 mm Mated Height, Vertical, ZIF, SMT, 26 Circuits, -40 to 85 degC, ELV and RoHS Compliant, Tape and Reel; Manufacturer: Molex; PartNumber: 52559-2652; Circuits (Loaded): 26; Current (Max per Contact): 0.5A; Durability (mating cycles max): 20; Mated Height: 3.90mm; Material - Metal: Phosphor Bronze; Material - Plating Mating: Gold; Material - Plating Termination: Tin; PCB Locator: No; PCB Retention: Yes; Pitch - Mating Interface: 0.50mm; Voltage (Max): 50V AC (RMS)/DC; PackageVersion: Rev. B, 12/2011; PackageReference: 52559-2652; PackageDescription: 26-Lead FPC Connector, Pitch 0.5 mm; Contact Position: N/A; Entry Angle: Vertical; Number of Rows: 1; Orientation: Vertical; Packing: Tape and Reel; Polarized to PCB: No; RoHS: TRUE; Stackable: No; Mounting Technology: Surface Mount; ComponentLink1Description: Manufacturer URL; ComponentLink1URL: http://www.molex.com/molex/index.jsp; ComponentLink2Description: Datasheet; ComponentLink2URL: http://www.molex.com/webdocs/datasheets/pdf/en-us/0525592652_FFC_FPC_CONNECTORS.pdf; ComponentLink3Description: Package Specification; ComponentLink3URL: http://www.molex.com/pdm_docs/sd/525592652_sd.pdf
footprint MOLX-52559-2652 (FPC Connector, 26-Leads, Vertical, Pitch 0.5 mm, Mated Height 3.9 mm, SMT)
pins: 1, 2, 3, 4, 5, 6, 7, 8, 9, 10, 11, 12, 13, 14, 15, 16, 17, 18, 19, 20, 21, 22, 23, 24, 25, 26, MP1, MP2, MP3, MP4

## 52559-2752
designator J?
0.5 mm Pitch Easy-On(TM) Type FPC Connector, 3.9 mm Mated Height, Vertical, ZIF, SMT, 27 Circuits, -40 to 85 degC, ELV and RoHS Compliant, Tape and Reel; Manufacturer: Molex; PartNumber: 52559-2752; Circuits (Loaded): 27; Current (Max per Contact): 0.5A; Durability (mating cycles max): 20; Mated Height: 3.90mm; Material - Metal: Phosphor Bronze; Material - Plating Mating: Gold; Material - Plating Termination: Tin; PCB Locator: No; PCB Retention: Yes; Pitch - Mating Interface: 0.50mm; Voltage (Max): 50V AC (RMS)/DC; PackageVersion: Rev. B, 12/2011; PackageReference: 52559-2752; PackageDescription: 27-Lead FPC Connector, Pitch 0.5 mm; Contact Position: N/A; Entry Angle: Vertical; Number of Rows: 1; Orientation: Vertical; Packing: Tape and Reel; Polarized to PCB: No; RoHS: TRUE; Stackable: No; Mounting Technology: Surface Mount; ComponentLink1Description: Manufacturer URL; ComponentLink1URL: http://www.molex.com/molex/index.jsp; ComponentLink2Description: Datasheet; ComponentLink2URL: http://www.molex.com/webdocs/datasheets/pdf/en-us/0525592752_FFC_FPC_CONNECTORS.pdf; ComponentLink3Description: Package Specification; ComponentLink3URL: http://www.molex.com/pdm_docs/sd/525592752_sd.pdf
footprint MOLX-52559-2752 (FPC Connector, 27-Leads, Vertical, Pitch 0.5 mm, Mated Height 3.9 mm, SMT)
pins: 1, 2, 3, 4, 5, 6, 7, 8, 9, 10, 11, 12, 13, 14, 15, 16, 17, 18, 19, 20, 21, 22, 23, 24, 25, 26, 27, MP1, MP2, MP3, MP4

## 52559-2852
designator J?
0.5 mm Pitch Easy-On(TM) Type FPC Connector, 3.9 mm Mated Height, Vertical, ZIF, SMT, 28 Circuits, -40 to 85 degC, ELV and RoHS Compliant, Tape and Reel; Manufacturer: Molex; PartNumber: 52559-2852; Circuits (Loaded): 28; Current (Max per Contact): 0.5A; Durability (mating cycles max): 20; Mated Height: 3.90mm; Material - Metal: Phosphor Bronze; Material - Plating Mating: Gold; Material - Plating Termination: Tin; PCB Locator: No; PCB Retention: Yes; Pitch - Mating Interface: 0.50mm; Voltage (Max): 50V AC (RMS)/DC; PackageVersion: Rev. B, 12/2011; PackageReference: 52559-2852; PackageDescription: 28-Lead FPC Connector, Pitch 0.5 mm; Contact Position: N/A; Entry Angle: Vertical; Number of Rows: 1; Orientation: Vertical; Packing: Tape and Reel; Polarized to PCB: No; RoHS: TRUE; Stackable: No; Mounting Technology: Surface Mount; ComponentLink1Description: Manufacturer URL; ComponentLink1URL: http://www.molex.com/molex/index.jsp; ComponentLink2Description: Datasheet; ComponentLink2URL: http://www.molex.com/webdocs/datasheets/pdf/en-us/0525592852_FFC_FPC_CONNECTORS.pdf; ComponentLink3Description: Package Specification; ComponentLink3URL: http://www.molex.com/pdm_docs/sd/525592852_sd.pdf
footprint MOLX-52559-2852 (FPC Connector, 28-Leads, Vertical, Pitch 0.5 mm, Mated Height 3.9 mm, SMT)
pins: 1, 2, 3, 4, 5, 6, 7, 8, 9, 10, 11, 12, 13, 14, 15, 16, 17, 18, 19, 20, 21, 22, 23, 24, 25, 26, 27, 28, MP1, MP2, MP3, MP4

## 52559-3052
designator J?
0.5 mm Pitch Easy-On(TM) Type FPC Connector, 3.9 mm Mated Height, Vertical, ZIF, SMT, 30 Circuits, -40 to 85 degC, ELV and RoHS Compliant, Tape and Reel; Manufacturer: Molex; PartNumber: 52559-3052; Circuits (Loaded): 30; Current (Max per Contact): 0.5A; Durability (mating cycles max): 20; Mated Height: 3.90mm; Material - Metal: Phosphor Bronze; Material - Plating Mating: Gold; Material - Plating Termination: Tin; PCB Locator: No; PCB Retention: Yes; Pitch - Mating Interface: 0.50mm; Voltage (Max): 50V AC (RMS)/DC; PackageVersion: Rev. B, 12/2011; PackageReference: 52559-3052; PackageDescription: 30-Lead FPC Connector, Pitch 0.5 mm; Contact Position: N/A; Entry Angle: Vertical; Number of Rows: 1; Orientation: Vertical; Packing: Tape and Reel; Polarized to PCB: No; RoHS: TRUE; Stackable: No; Mounting Technology: Surface Mount; ComponentLink1Description: Manufacturer URL; ComponentLink1URL: http://www.molex.com/molex/index.jsp; ComponentLink2Description: Datasheet; ComponentLink2URL: http://www.molex.com/webdocs/datasheets/pdf/en-us/0525593052_FFC_FPC_CONNECTORS.pdf; ComponentLink3Description: Package Specification; ComponentLink3URL: http://www.molex.com/pdm_docs/sd/525593052_sd.pdf
footprint MOLX-52559-3052 (FPC Connector, 30-Leads, Vertical, Pitch 0.5 mm, Mated Height 3.9 mm, SMT)
pins: 1, 2, 3, 4, 5, 6, 7, 8, 9, 10, 11, 12, 13, 14, 15, 16, 17, 18, 19, 20, 21, 22, 23, 24, 25, 26, 27, 28, 29, 30, MP1, MP2, MP3, MP4

## 52559-3252
designator J?
0.5 mm Pitch Easy-On(TM) Type FPC Connector, 3.9 mm Mated Height, Vertical, ZIF, SMT, 32 Circuits, -40 to 85 degC, ELV and RoHS Compliant, Tape and Reel; Manufacturer: Molex; PartNumber: 52559-3252; Circuits (Loaded): 32; Current (Max per Contact): 0.5A; Durability (mating cycles max): 20; Mated Height: 3.90mm; Material - Metal: Phosphor Bronze; Material - Plating Mating: Gold; Material - Plating Termination: Tin; PCB Locator: No; PCB Retention: Yes; Pitch - Mating Interface: 0.50mm; Voltage (Max): 50V AC (RMS)/DC; PackageVersion: Rev. B, 12/2011; PackageReference: 52559-3252; PackageDescription: 32-Lead FPC Connector, Pitch 0.5 mm; Contact Position: N/A; Entry Angle: Vertical; Number of Rows: 1; Orientation: Vertical; Packing: Tape and Reel; Polarized to PCB: No; RoHS: TRUE; Stackable: No; Mounting Technology: Surface Mount; ComponentLink1Description: Manufacturer URL; ComponentLink1URL: http://www.molex.com/molex/index.jsp; ComponentLink2Description: Datasheet; ComponentLink2URL: http://www.molex.com/webdocs/datasheets/pdf/en-us/0525593252_FFC_FPC_CONNECTORS.pdf; ComponentLink3Description: Package Specification; ComponentLink3URL: http://www.molex.com/pdm_docs/sd/525593252_sd.pdf
footprint MOLX-52559-3252 (FPC Connector, 32-Leads, Vertical, Pitch 0.5 mm, Mated Height 3.9 mm, SMT)
pins: 1, 2, 3, 4, 5, 6, 7, 8, 9, 10, 11, 12, 13, 14, 15, 16, 17, 18, 19, 20, 21, 22, 23, 24, 25, 26, 27, 28, 29, 30, 31, 32, MP1, MP2, MP3, MP4

## 52559-3652
designator J?
0.5 mm Pitch Easy-On(TM) Type FPC Connector, 3.9 mm Mated Height, Vertical, ZIF, SMT, 36 Circuits, -40 to 85 degC, ELV and RoHS Compliant, Tape and Reel; Manufacturer: Molex; PartNumber: 52559-3652; Circuits (Loaded): 36; Current (Max per Contact): 0.5A; Durability (mating cycles max): 20; Mated Height: 3.90mm; Material - Metal: Phosphor Bronze; Material - Plating Mating: Gold; Material - Plating Termination: Tin; PCB Locator: No; PCB Retention: Yes; Pitch - Mating Interface: 0.50mm; Voltage (Max): 50V AC (RMS)/DC; PackageVersion: Rev. B, 12/2011; PackageReference: 52559-3652; PackageDescription: 36-Lead FPC Connector, Pitch 0.5 mm; Contact Position: N/A; Entry Angle: Vertical; Number of Rows: 1; Orientation: Vertical; Packing: Tape and Reel; Polarized to PCB: No; RoHS: TRUE; Stackable: No; Mounting Technology: Surface Mount; ComponentLink1Description: Manufacturer URL; ComponentLink1URL: http://www.molex.com/molex/index.jsp; ComponentLink2Description: Datasheet; ComponentLink2URL: http://www.molex.com/webdocs/datasheets/pdf/en-us/0525593652_FFC_FPC_CONNECTORS.pdf; ComponentLink3Description: Package Specification; ComponentLink3URL: http://www.molex.com/pdm_docs/sd/525593652_sd.pdf
footprint MOLX-52559-3652 (FPC Connector, 36-Leads, Vertical, Pitch 0.5 mm, Mated Height 3.9 mm, SMT)
pins: 1, 2, 3, 4, 5, 6, 7, 8, 9, 10, 11, 12, 13, 14, 15, 16, 17, 18, 19, 20, 21, 22, 23, 24, 25, 26, 27, 28, 29, 30, 31, 32, 33, 34, 35, 36, MP1, MP2, MP3, MP4

## 52559-4052
designator J?
0.5 mm Pitch Easy-On(TM) Type FPC Connector, 3.9 mm Mated Height, Vertical, ZIF, SMT, 40 Circuits, -40 to 85 degC, ELV and RoHS Compliant, Tape and Reel; Manufacturer: Molex; PartNumber: 52559-4052; Circuits (Loaded): 40; Current (Max per Contact): 0.5A; Durability (mating cycles max): 20; Mated Height: 3.90mm; Material - Metal: Phosphor Bronze; Material - Plating Mating: Gold; Material - Plating Termination: Tin; PCB Locator: No; PCB Retention: Yes; Pitch - Mating Interface: 0.50mm; Voltage (Max): 50V AC (RMS)/DC; PackageVersion: Rev. B, 12/2011; PackageReference: 52559-4052; PackageDescription: 40-Lead FPC Connector, Pitch 0.5 mm; Contact Position: N/A; Entry Angle: Vertical; Number of Rows: 1; Orientation: Vertical; Packing: Tape and Reel; Polarized to PCB: No; RoHS: TRUE; Stackable: No; Mounting Technology: Surface Mount; ComponentLink1Description: Manufacturer URL; ComponentLink1URL: http://www.molex.com/molex/index.jsp; ComponentLink2Description: Datasheet; ComponentLink2URL: http://www.molex.com/webdocs/datasheets/pdf/en-us/0525594052_FFC_FPC_CONNECTORS.pdf; ComponentLink3Description: Package Specification; ComponentLink3URL: http://www.molex.com/pdm_docs/sd/525594052_sd.pdf
footprint MOLX-52559-4052 (FPC Connector, 40-Leads, Vertical, Pitch 0.5 mm, Mated Height 3.9 mm, SMT)
pins: 1, 2, 3, 4, 5, 6, 7, 8, 9, 10, 11, 12, 13, 14, 15, 16, 17, 18, 19, 20, 21, 22, 23, 24, 25, 26, 27, 28, 29, 30, 31, 32, 33, 34, 35, 36, 37, 38, 39, 40, MP1, MP2, MP3, MP4

## 52610-0533
designator J?
1.0 mm Pitch Easy-On(TM) Type FPC Connector, 5.75 mm Mated Height, Vertical, ZIF, SMT, 5 Circuits, -40 to 85 degC, ELV and RoHS Compliant, Tape and Reel; Manufacturer: Molex; PartNumber: 52610-0533; Circuits (Loaded): 5; Current (Max per Contact): 1A; Durability (mating cycles max): 30; Mated Height: 5.75mm; Material - Metal: Phosphor Bronze; Material - Plating Mating: Silver, Tin-Bismuth; PCB Locator: No; PCB Retention: None; Pitch - Mating Interface: 1.00mm; Voltage (Max): 125V; PackageVersion: Rev. B, 08/2013; PackageReference: 52610-0533; PackageDescription: 5-Lead FPC Connector, Pitch 1.0 mm; Contact Position: N/A; Entry Angle: Vertical; Material - Plating Termination: Silver, Tin-Bismuth; Number of Rows: 1; Orientation: Vertical; Packing: Tape and Reel; Pitch - Termination Interface: 1.00mm; Polarized to PCB: No; RoHS: TRUE; Stackable: No; Mounting Technology: Surface Mount; ComponentLink1Description: Manufacturer URL; ComponentLink1URL: http://www.molex.com/molex/index.jsp; ComponentLink2Description: Datasheet; ComponentLink2URL: http://www.molex.com/webdocs/datasheets/pdf/en-us/0526100533_FFC_FPC_CONNECTORS.pdf; ComponentLink3Description: Package Specification; ComponentLink3URL: http://www.molex.com/pdm_docs/sd/526100533_sd.pdf
footprint MOLX-52610-0533 (FPC Connector, 5-Leads, Vertical, Pitch 1.0 mm, Mated Height 5.75 mm, SMT)
pins: 1A, 1B, 2A, 2B, 3A, 3B, 4A, 4B, 5A, 5B